# EAGLE library part OPTOCOUPLER_TYPE2 (library QuantumOptics)
Optocoupler, Jedec 6N137 (pin compatible to 6N136), high CTR, high speed, inverting. http://www.toshiba.com/taec/components/Datasheet/6N137DS.pdf
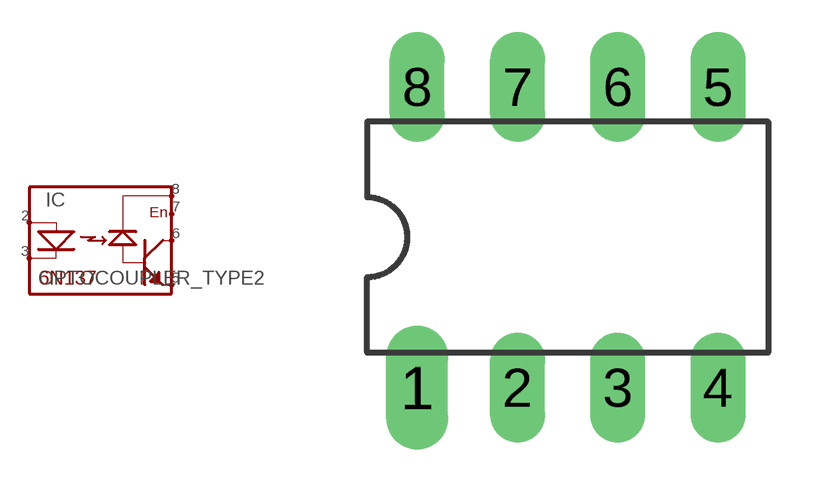
[diagram p62: symbol with the pads of DIL08; footprint DIL08]

Designator prefix IC

## OPTOCOUPLER_TYPE2  [DIL08]
2  ANODE
3  CATHODE
5  COM
6  OUT
7  EN
8  VDD

## Footprint DIL08 (pad centres in mm)
Dual In Line Package
drill 0.889 pad 1.575 long: 1 -3.81,-3.81
drill 0.889 long: 2 -1.27,-3.81; 3 1.27,-3.81; 4 3.81,-3.81; 5 3.81,3.81; 6 1.27,3.81; 7 -1.27,3.81; 8 -3.81,3.81